# Altium schematic symbol library CircuitStudioSchematic.Lib.SchLib: 311 symbols (part 2 of 2)
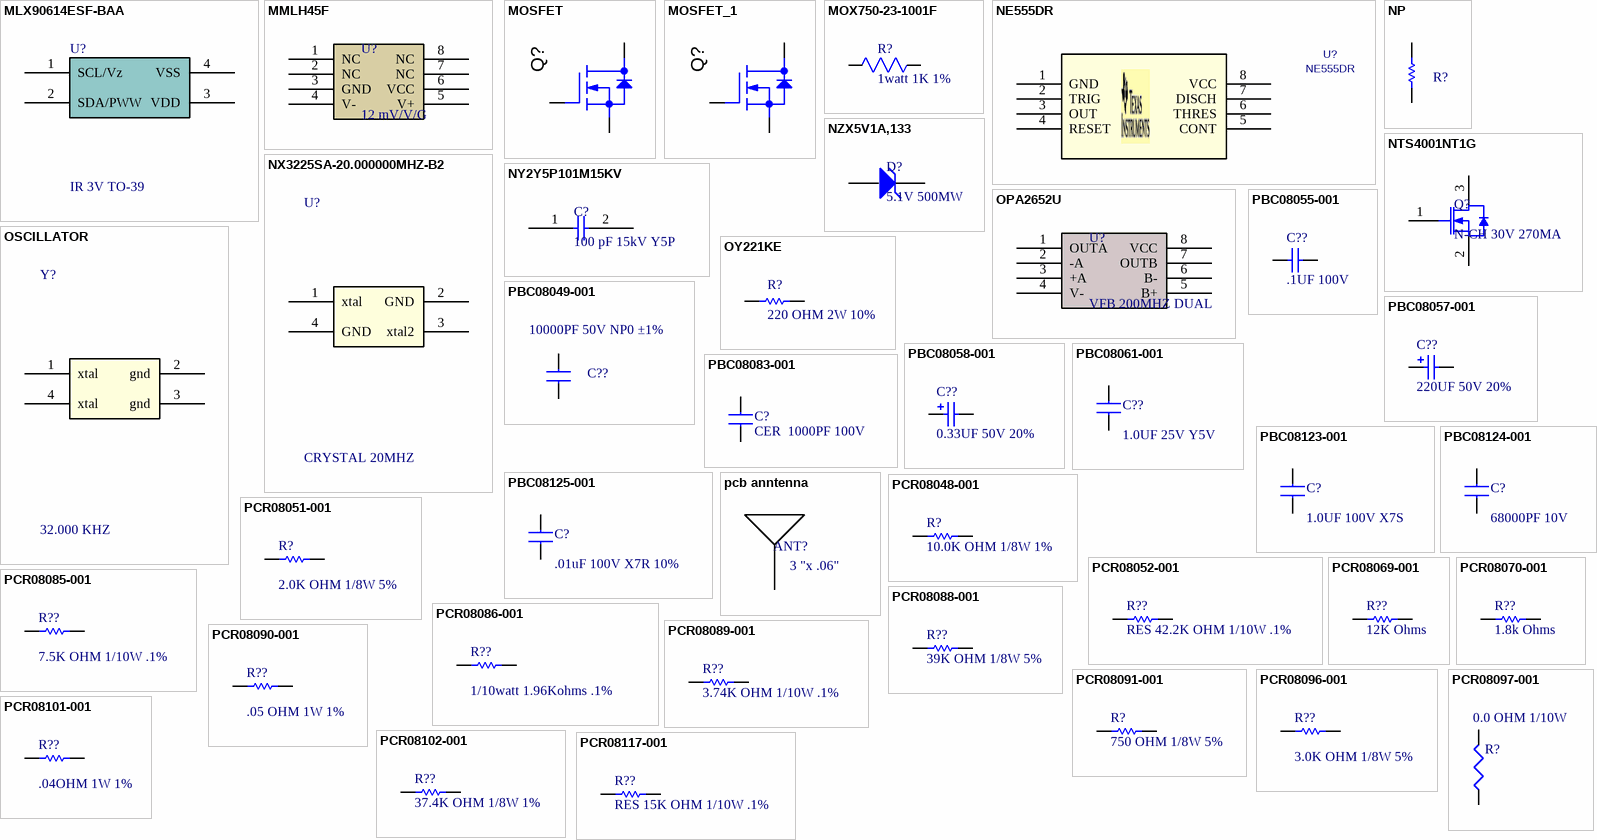
[diagram p10: symbols MLX90614ESF-BAA to PCR08117-001]

## PCR08102-001
designator R??  value 37.4K OHM 1/8W 1%  (hidden comment: PCR08102-001)
RES 37.4K OHM 1/8W 1% 0805 SMD; Part Number: ERJ-6ENF3742V; Manufacturer: Panasonic - ECG; Siemens Part Number: PCR08102-001
simulation model RESISTOR (Resistor)
signal-integrity model Res
footprint R0805
footprint Model Name (Footprint not found)
footprint R0805
pins: 1, 2

## PCR08117-001
designator R??, comment value RES 15K OHM 1/10W .1%  (hidden comment: 15K OHM 1/10W .1%)
RES 15K OHM 1/10W .1% 0603 SMD; Part Number: ERA-3AEB153V; Manufacturer: Panasonic - ECG; Siemens Part Number: PCR08117-P001
simulation model RESISTOR (Resistor)
signal-integrity model Res
footprint R0603 (Chip Resistor, Body 1.6x0.8mm, IPC High Density)
pins: 1, 2

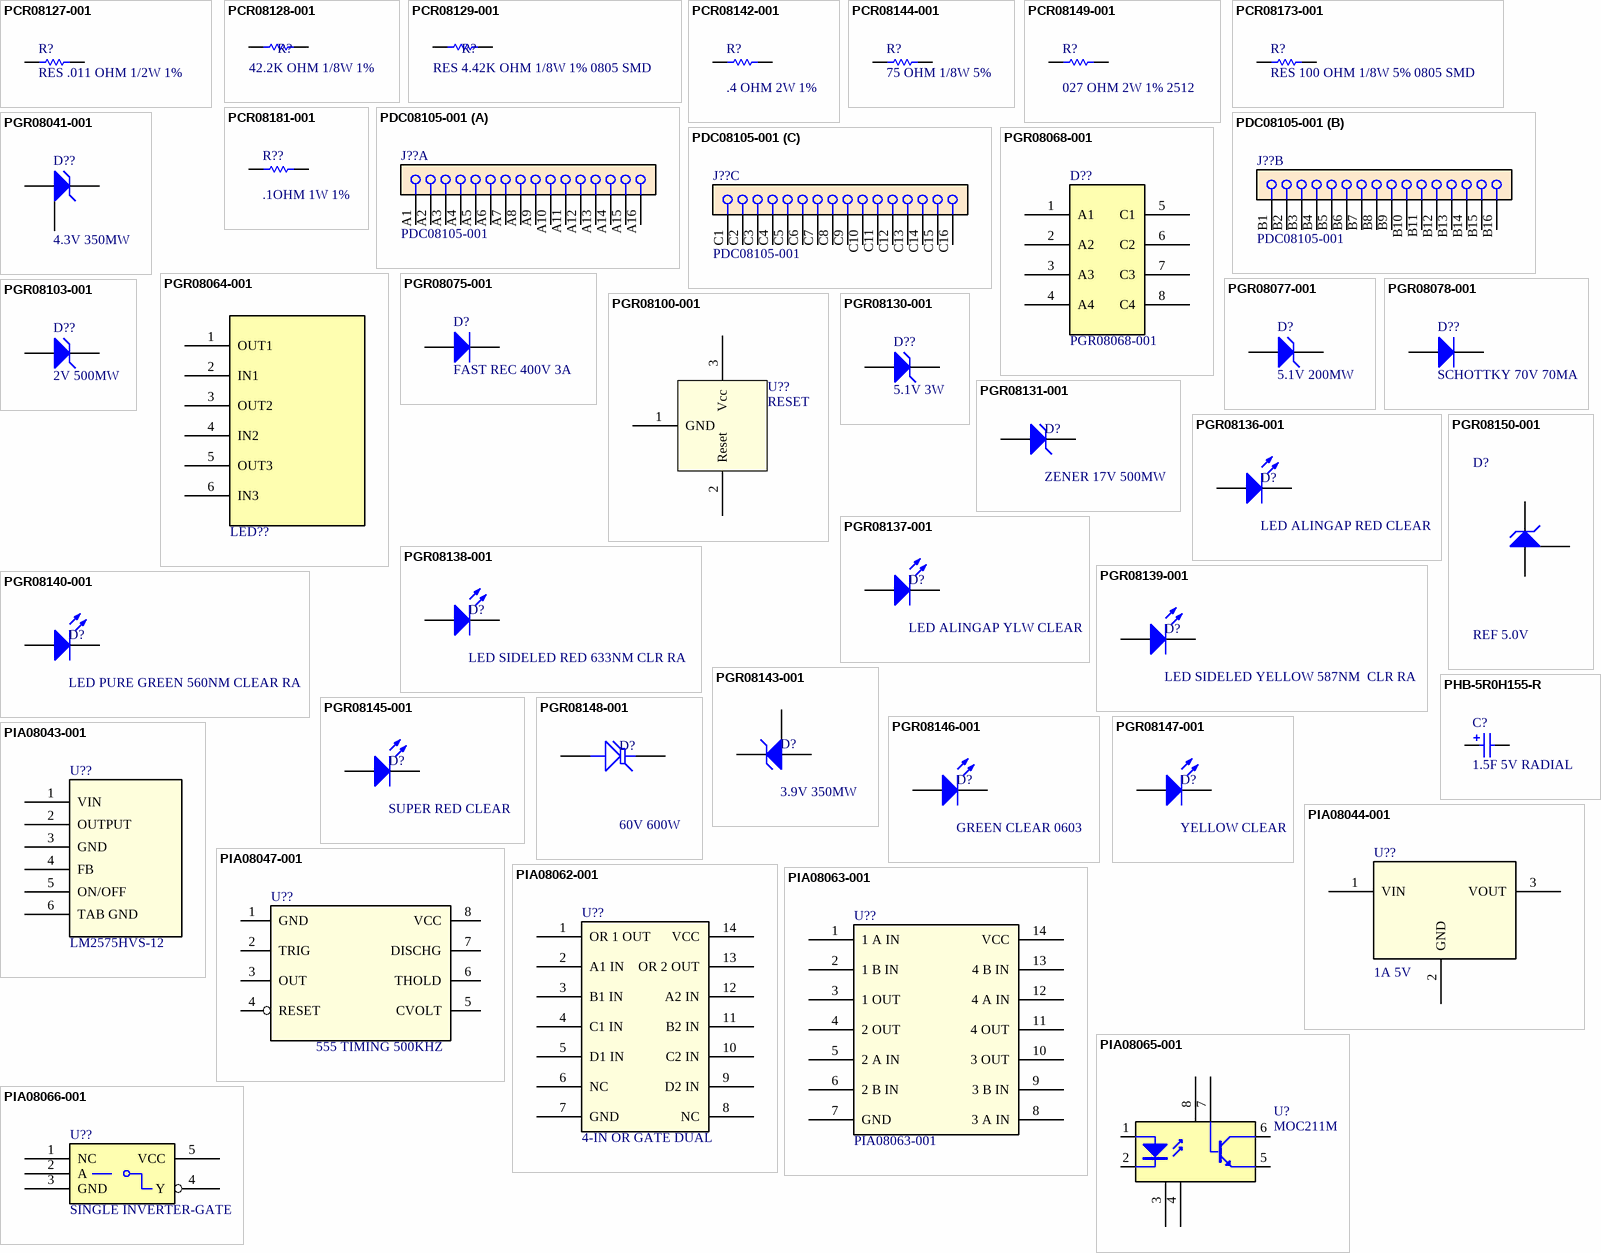
[diagram p6: symbols PCR08127-001 to PIA08066-001]

## PCR08127-001
designator R?, comment value RES .011 OHM 1/2W 1%  (hidden comment: .011 OHM 1/2W 1%)
RES 011 OHM 1/2W 1%; Part Number: ERJ-8BWFR011V; Manufacturer: Panasonic - ECG; Siemens Part Number: PCR08127-P001
simulation model RESISTOR (Resistor)
signal-integrity model Res
footprint R1206
pins: 1, 2

## PCR08128-001
designator R?, comment 42.2K OHM 1/8W 1%
RES 42.2K OHM 1/8W 1% 0805 SMD; Part Number: ERJ-6ENF4222V; Manufacturer: Panasonic - ECG; Siemens Part Number: PCR08128-P001; Value: 42.2K OHM 1/8W 1%
simulation model RESISTOR (Resistor)
signal-integrity model Res
footprint Model Name (Footprint not found)
footprint R0805
pins: 1, 2

## PCR08129-001
designator R?, comment value RES 4.42K OHM 1/8W 1% 0805 SMD  (hidden comment: 4.42K OHM 1/8W 1%)
RES 4.42K OHM 1/8W 1% 0805 SMD; Part Number: ERJ-6ENF4421V; Manufacturer: Panasonic - ECG; Siemens Part Number: PCR08129-P001
simulation model RESISTOR (Resistor)
signal-integrity model Res
footprint Model Name (Footprint not found)
footprint R0805
pins: 1, 2

## PCR08142-001
designator R?, comment value .4 OHM 2W 1%  (hidden comment: .4OHM 2W 1)
RES .4OHM 2W 1% 2512 SMD; Part Number: CSRN2512FKR400; Manufacturer: Stackpole Electronics Inc; Siemens Part Number: PCR08142-001
simulation model RESISTOR (Resistor)
signal-integrity model Res
footprint R2512 Current Sense
pins: 1, 2

## PCR08144-001
designator R?, comment 75 OHM 1/8W 5%
RES 75 OHM 1/8W 5% 0805 SMD; Part Number: ERJ-6GEYJ750V; Manufacturer: Panasonic - ECG; Siemens Part Number: PCR08144-001; Value: 75 OHM 1/8W 5%
simulation model RESISTOR (Resistor)
signal-integrity model Res
footprint R0805
pins: 1, 2

## PCR08149-001
designator R?, comment value 027 OHM 2W 1% 2512  (hidden comment: .027 OHM 2W 1% 2512)
RES .027 OHM 2W 1% 2512 SMD; Part Number: WSL2512R0270FEA18; Manufacturer: Vishay/Dale; Siemens Part Number: PCR08149-001
simulation model RESISTOR (Resistor)
signal-integrity model Res
footprint R2512 Current Sense
pins: 1, 2

## PCR08173-001
designator R?, comment value RES 100 OHM 1/8W 5% 0805 SMD  (hidden comment: 100 OHM 1/8W 5%)
RES 100 OHM 1/8W 5% 0805 SMD; Part Number: ERJ-6GEYJ101V; Manufacturer: Panasonic - ECG; Siemens Part Number: PCR08173-001
simulation model RESISTOR (Resistor)
signal-integrity model Res
footprint R0805
pins: 1, 2

## PCR08181-001
designator R??  value .1OHM 1W 1%  (hidden comment: PCR08181-001)
RESISTOR .100 OHM 1W 1% 2512; Part Number: ERJ-L1WKF10CU; Manufacturer: Panasonic - ECG; Siemens Part Number: PCR08181-001
footprint R2512 Current Sense
pins: 1, 2

## PDC08105-001
designator J??
AVX_48_PIN_RT_200_CONNECTOR, Pitch 5.08 mm; Part Number: 108447048001025; Manufacturer: AVX Corporation; HelpURL: G:\Altium\Library\DATASHEETS\8447.pdf; Siemens Part Number: PDC08105-001
footprint 0905248x851 (Connector; DIN 41612, Type E, Thru-Hole; Rows a+c+e, 48 Position; Vertical)
part A pins: A1, A2, A3, A4, A5, A6, A7, A8, A9, A10, A11, A12, A13, A14, A15, A16
part B pins: B1, B2, B3, B4, B5, B6, B7, B8, B9, B10, B11, B12, B13, B14, B15, B16
part C pins: C1, C2, C3, C4, C5, C6, C7, C8, C9, C10, C11, C12, C13, C14, C15, C16

## PGR08041-001
designator D??, comment 4.3V 350MW
ZENER 4.3V 350MW; Part Number: MMBZ5229B; Manufacturer: Fairchild Semiconductor; Siemens Part Number: PGR08041-001; HelpURL: G:\Altium\Library\DATASHEETS\MMBZ5226B.pdf
simulation model ZENER (Diode)
footprint Model Name (Footprint not found)
footprint SOT-23
pins: 1 "Anode", 2 "No Connect", 3 "Cathode"

## PGR08064-001
designator LED??, comment 5510003819F  (value not drawn)
LED LIGHT TRIPPLE RA; Manufacturer: Dialight; Siemens Part Number: PGR08064-001; Part Number: 5510003819F; HelpURL: G:\Altium\Library\DATASHEETS\C17865.pdf
footprint LED QUAD RA1
footprint LED Traffic (traffic light led green red yellow TE Connectivity)
pins: 1 OUT1, 2 IN1, 3 OUT2, 4 IN2, 5 OUT3, 6 IN3

## PGR08068-001
designator D??
LED 2MM QUAD RED; Part Number: 555-4001F; Manufacturer: Dialight; HelpURL: G:\Altium\Library\DATASHEETS\555-4xxx.pdf; Siemens Part Number: PGR08068-001
footprint Dialight Led 8 .1 X .1
pins: 1 A1, 2 A2, 3 A3, 4 A4, 5 C1, 6 C2, 7 C3, 8 C4

## PGR08075-001
designator D?, comment FAST REC 400V 3A
Part Number: RS3GB-13-F; Manufacturer: Diodes Inc; Siemens Part Number: PGR08075-001; HelpURL: G:\Altium\Library\DATASHEETS\ds15005.pdf
footprint DO214AA
pins: 1 A, 2 K

## PGR08077-001
designator D?, comment 5.1V 200MW
DIODE ZENER 5.1V 200MW SOD-323F; Part Number: MM3Z5V1C; Manufacturer: Fairchild Semiconductor; Siemens Part Number: PGR08077-001; HelpURL: G:\Altium\Library\DATASHEETS\MM3Z10VC.pdf
simulation model ZENER (Diode)
signal-integrity model D Zener
footprint SOD323F
pins: 1 "Anode", 2 "Cathode"

## PGR08078-001
designator D??, comment SCHOTTKY 70V 70MA
DIODE SCHOTTKY 70V 70MA SOD-923; Part Number: BAS70SL; Manufacturer: irchild Semiconductor; Siemens Part Number: PGR08078-001; HelpURL: G:\Altium\Library\DATASHEETS\BA_BAS70SL.pdf
footprint SOD 923F
pins: 1 A, 2 K

## PGR08100-001
designator U??, comment RESET
IC MPU RESET CIRC 4.63V SOT23-3; Part Number: APX803-46SAG-7; Manufacturer: Diodes Inc; Siemens Part Number: PGR08100-001; HelpURL: G:\Altium\Library\DATASHEETS\APX803.pdf
footprint SOT-23
pins: 1 GND, 2 Reset, 3 Vcc

## PGR08103-001
designator D??, comment 2V 500MW
DIODE ZENER 2V 500MW SOD-123; Part Number: BZT52C2V0-7-F; Manufacturer: Diodes Inc; Siemens Part Number: PGR08103-001; HelpURL: G:\Altium\Library\DATASHEETS\ds18004.pdf
simulation model ZENER (Diode)
signal-integrity model D Zener
footprint Model Name (Footprint not found)
footprint SOD-123
pins: 1 "Anode", 2 "Cathode"

## PGR08130-001
designator D??, comment 5.1V 3W
DIODE ZENER 5.1V 3W SMB; Part Number: 1SMB5918BT3G; Manufacturer: ON Semiconductor; Siemens Part Number: PGR08130-001; HelpURL: G:\Altium\Library\DATASHEETS\1SMB5913BT3-D.pdf
simulation model ZENER (Diode)
signal-integrity model D Zener
footprint Model Name (Footprint not found)
footprint DO214AA
pins: 1 "Anode", 2 "Cathode"

## PGR08131-001
designator D?, comment ZENER 17V 500MW
DIODE ZENER 17V 500MW SOD-123; Part Number: MMSZ5247BT1G; Manufacturer: ON Semiconductor; Siemens Part Number: PGR08131-001; HelpURL: G:\Altium\Library\DATASHEETS\MMSZ4678T1-D.pdf
simulation model ZENER (Diode)
signal-integrity model D Zener
footprint SOD-123
pins: 1 "Anode", 2 "Cathode"

## PGR08136-001
designator D?, comment LED ALINGAP RED CLEAR
LED ALINGAP RED CLEAR 0805 SMD; Part Number: 598-8110-107F; Manufacturer: Dialight; Siemens Part Number: PGR08136-P001; HelpURL: G:\Altium\Library\DATASHEETS\MDEI5980805.pdf
simulation model ZENER (Diode)
signal-integrity model D Zener
footprint D0805 (LED)
pins: 1 A, 2 K

## PGR08137-001
designator D?, comment LED ALINGAP YLW CLEAR
LED ALINGAP YLW CLEAR 0805 SMD; Part Number: 598-8150-107F; Manufacturer: Dialight; Siemens Part Number: PGR08137-P001; HelpURL: G:\Altium\Library\DATASHEETS\MDEI5980805.pdf
simulation model ZENER (Diode)
signal-integrity model D Zener
footprint D0805 (LED)
pins: 1 A, 2 K

## PGR08138-001
designator D?, comment LED SIDELED RED 633NM CLR RA
LED SIDELED RED 633NM CLR RA SMD; Part Number: LS A67F-U1AA-1-Z; Manufacturer: OSRAM Opto Semiconductors Inc; Siemens Part Number: PGR08138-P001; HelpURL: G:\Altium\Library\DATASHEETS\LP_A675_Pb_free.pdf
simulation model ZENER (Diode)
signal-integrity model D Zener
footprint LED OSRAM RED (LED Right angle OSRAM LED)
pins: 1 A, 2 K

## PGR08139-001
designator D?, comment LED SIDELED YELLOW 587NM  CLR RA
LED SIDELED YELLOW 587NM  CLR RA SMD; Part Number: LY A67F-U2AB-36-Z; Manufacturer: OSRAM Opto Semiconductors Inc; Siemens Part Number: PGR08139-P001; HelpURL: G:\Altium\Library\DATASHEETS\LP_A675_Pb_free.pdf
simulation model ZENER (Diode)
signal-integrity model D Zener
footprint LED OSRAM  YELLOW (LED Right angle OSRAM LED)
pins: 1 A, 2 K

## PGR08140-001
designator D?, comment LED PURE GREEN 560NM CLEAR RA
LED PURE GREEN 560NM CLEAR SMDRA; Part Number: LP A675-N1P2-25-Z; Manufacturer: OSRAM Opto Semiconductors Inc; Siemens Part Number: PGR08140-P001; HelpURL: G:\Altium\Library\DATASHEETS\LP_A675_Pb_free.pdf
simulation model ZENER (Diode)
signal-integrity model D Zener
footprint LED OSRAM GREEN (LED Right angle OSRAM LED)
pins: 1 A, 2 K

## PGR08143-001
designator D?, comment 3.9V 350MW
DIODE ZENER 3.9V 350MW SOT23-3; Part Number: MMBZ5228B-7-F; Manufacturer: Diodes Inc; Siemens Part Number: PGR08143-001; HelpURL: G:\Altium\Library\DATASHEETS\ds18011.pdf
simulation model ZENER (Diode)
signal-integrity model D Zener
footprint SOT-23
pins: 1 "Anode", 2 "No Connect", 3 "Cathode"

## PGR08145-001
designator D?, comment SUPER RED CLEAR
LED SUPER RED CLEAR 0603 SMD; Part Number: LTST-C190KRKT; Manufacturer: Lite-On Inc
simulation model ZENER (Diode)
footprint D0603 red (red)
pins: 1 A, 2 K

## PGR08146-001
designator D?, comment GREEN CLEAR 0603
LED GREEN CLEAR 0603 SMD; Part Number: LTST-C190KGKT; Manufacturer: Lite-On Inc; Siemens Part Number: PGR08146-P001; HelpURL: G:\Altium\Library\DATASHEETS\P_100_LTST-C190KRKT[1].pdf
simulation model ZENER (Diode)
signal-integrity model D Zener
footprint D0603 GREEN (red)
pins: 1 A, 2 K

## PGR08147-001
designator D?, comment YELLOW CLEAR
LED YELLOW CLEAR 0603 SMD; Part Number: LTST-C190KSKT; Manufacturer: Lite-On Inc; Siemens Part Number: PGR08147-P001; HelpURL: G:\Altium\Library\DATASHEETS\P_100_LTST-C190KRKT[1].pdf
simulation model ZENER (Diode)
signal-integrity model D Zener
footprint D0603 yellow (red)
pins: 1 A, 2 K

## PGR08148-001
designator D?, comment 60V 600W
DIODE TVS 60V 600W UNI 5% SMD; Part Number: SMBJ60A; Manufacturer: Bourns Inc.; Siemens Part Number: PGR08148-001; HelpURL: G:\Altium\Library\DATASHEETS\SMBJ.pdf
footprint DO214AA
pins: 1 A, 2 K

## PGR08150-001
designator D?, comment REF 5.0V
IC VOLTAGE REF 5.0V 1.0% SOT23-3; Part Number: LM4040D50FTA; Manufacturer: Diodes/Zetex; Siemens Part Number: PGR08150-001; HelpURL: G:\Altium\Library\DATASHEETS\LM4040.pdf
footprint Model Name (Footprint not found)
footprint TO-263-5 (IC REG SIMPLE SWITCHER TO-263-5)
pins: 1 "No Connect", 2 "Anode", 3 "Cathode"

## PHB-5R0H155-R
designator C?, comment 1.5F 5V RADIAL
CAP SUPER 1.5F 5V RADIAL; Part Number: PHB-5R0H155-R; Manufacturer: Cooper Bussmann; HelpURL: C:\altium files\Datasheets\PHB Series Datasheet.pdf; Value: 1.5F 5V RADIAL
footprint CAP SUPER Horizontal
pins: 1, 2
1 alternate drawing of the same symbol

## PIA08043-001
designator U??, comment LM2575HVS-12
IC REG SIMPLE SWITCHER TO-263-5; Part Number: LM2575HVS-12/NOPB; Manufacturer: National Semiconductor; Siemens Part Number: PIA08043-001; HelpURL: G:\Altium\Library\DATASHEETS\LM1575.pdf
footprint TO-263-5 (IC REG SIMPLE SWITCHER TO-263-5)
pins: 1 VIN, 2 OUTPUT, 3 GND, 4 FB, 5 ON/OFF, 6 TAB GND

## PIA08044-001
designator U??, comment 1A 5V
IC REG VOLT POS 1A 5V DPAK; Part Number: MC7805BDTRKG; Manufacturer: ON Semiconductor; Siemens Part Number: PIA08044-001; HelpURL: G:\Altium\Library\DATASHEETS\MC7800-D.pdf
footprint TO-252-2
pins: 1 VIN, 2 GND, 3 VOUT

## PIA08047-001
designator U??, comment 555 TIMING 500KHZ
OSC MONO TIMING 500KHZ; Manufacturer: STMicroelectronics; Part Number: SA555DT; Siemens Part Number: PIA08047-001; HelpURL: G:\Altium\Library\DATASHEETS\CD00000893.pdf
simulation model 555 (SUBCKT)
footprint SO8
pins: 1 GND, 2 TRIG, 3 OUT, 4 RESET, 5 CVOLT, 6 THOLD, 7 DISCHG, 8 VCC

## PIA08062-001
designator U??, comment 4-IN OR GATE DUAL
IC 4-IN OR GATE DUAL 14-SOP; Part Number: CD4072BNSR; Manufacturer: Texas Instruments; Siemens Part Number: PIA08062-001; HelpURL: G:\Altium\Library\DATASHEETS\cd4071b.pdf
footprint SO 14 (Texas Instruments)
pins: 1 OR 1 OUT, 2 A1 IN, 3 B1 IN, 4 C1 IN, 5 D1 IN, 6 NC, 7 GND, 8 NC, 9 D2 IN, 10 C2 IN, 11 B2 IN, 12 A2 IN, 13 OR 2 OUT, 14 VCC

## PIA08063-001
designator U??
IC EX-OR GATE QUAD 14-SOIC; Part Number: CD4070BM; Manufacturer: Texas Instruments; HelpURL: G:\Altium\Library\DATASHEETS\cd4070b.pdf; Siemens Part Number: PIA08063-001
footprint DIP-4 (DIP; 4 Leads; Row Spacing 7.62 mm; Pitch 2.54 mm)
footprint SOIC 14
pins: 1 1 A IN, 2 1 B IN, 3 1 OUT, 4 2 OUT, 5 2 A IN, 6 2 B IN, 7 GND, 8 3 A IN, 9 3 B IN, 10 3 OUT, 11 4 OUT, 12 4 A IN, 13 4 B IN, 14 VCC

## PIA08065-001
designator U?, comment MOC211M
OPTOCOUPLER TRANS-OUT; Manufacturer: Fairchild Optoelectronics Group; Siemens Part Number: PIA08065-001; HelpURL: G:\Altium\Library\DATASHEETS\MOC212-M.pdf; Part Number: MOC211M
footprint SOIC127P600-8N (Optocouplers Transistor Output MOC211)
pins: 1 A "Anode", 2 K "Cathode", 3 NC, 4 NC, 5 E "Emitter", 6 C "Collector", 7 B, 8 NC

## PIA08066-001
designator U??, comment SINGLE INVERTER-GATE
Manufacturer: Texas Instruments; Part Number: SN74LVC1G04DBVR; Siemens Part Number: PIA08066-001; HelpURL: G:\Altium\Library\DATASHEETS\sn74lvc1g04.pdf
footprint SOT 23-5
pins: 1 NC, 2 A, 3 GND (power), 4 Y, 5 VCC (power)

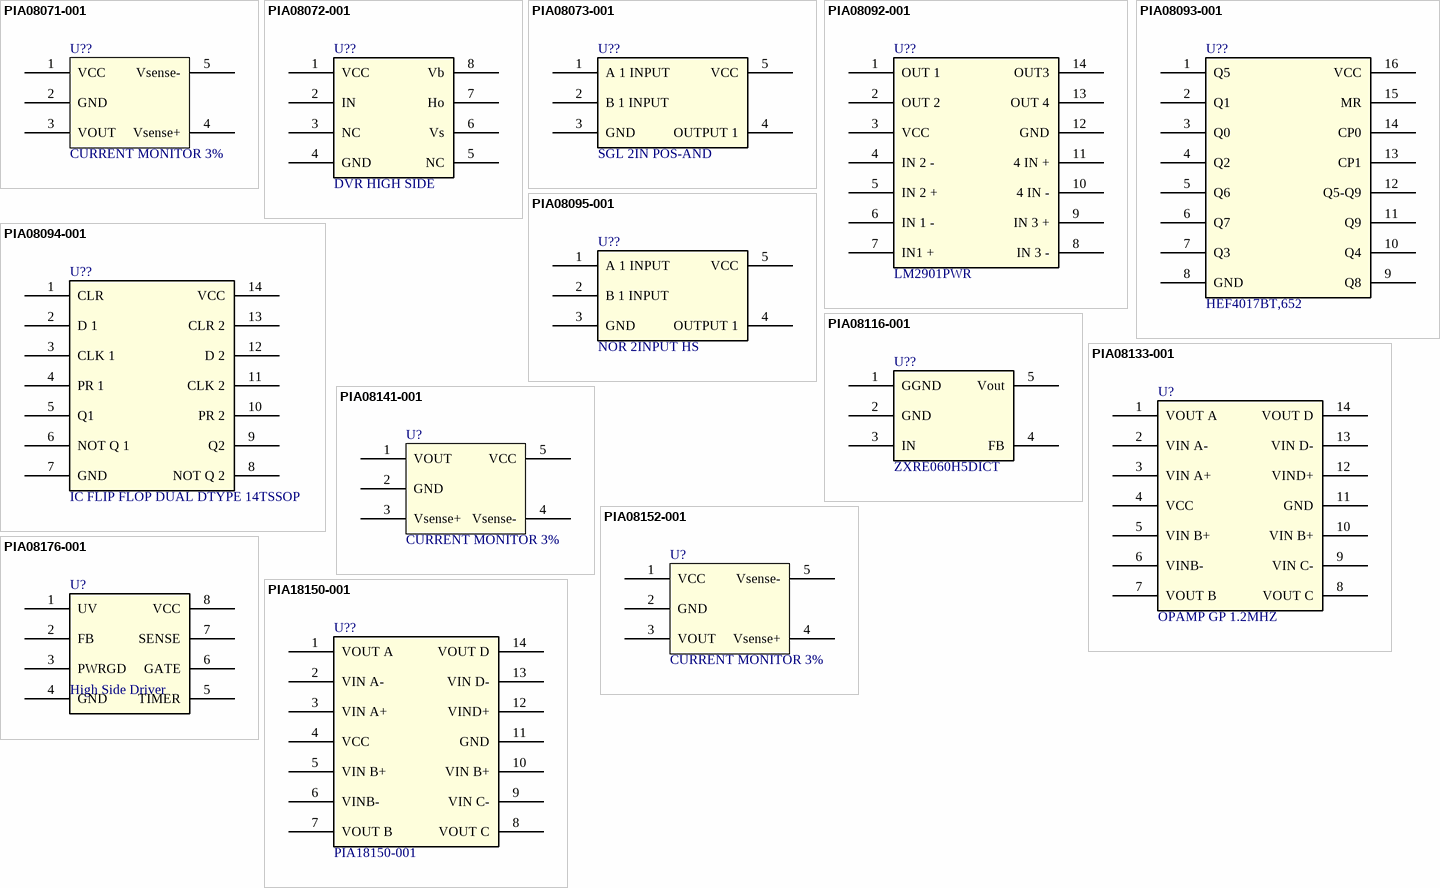
[diagram p7: symbols PIA08071-001 to PIA18150-001]

## PIA08071-001
designator U??, comment CURRENT MONITOR 3%
IC CURRENT MONITOR 3%; Part Number: ZXCT1050E5TA; Manufacturer: Diodes/Zetex; Siemens Part Number: PIA08071-001; HelpURL: G:\Altium\Library\DATASHEETS\ZXCT1050.pdf
footprint SOT 23-5
pins: 1 VCC, 2 GND, 3 VOUT, 4 Vsense+, 5 Vsense-

## PIA08072-001
designator U??, comment DVR HIGH SIDE
IC GATE DVR HIGH SIDE 8-SOP; Manufacturer: Fairchild Semiconductor; Part Number: FAN73711MX; Siemens Part Number: PIA08072-001; HelpURL: G:\Altium\Library\DATASHEETS\FA_FAN73711.pdf
footprint SOIC8 (IC SW DISTRIBUTION 2CHAN 8SOIC)
footprint SOIC8 (IC SW DISTRIBUTION 2CHAN 8SOIC)
footprint SOIC-8 (.150 chasis)
pins: 1 VCC, 2 IN, 3 NC, 4 GND, 5 NC, 6 Vs, 7 Ho, 8 Vb

## PIA08073-001
designator U??, comment SGL 2IN POS-AND
IC GATE NOR 2INPUT HS SC70-5; Part Number: SN74AHC1G08DCKR; Manufacturer: Texas Instruments; Siemens Part Number: PIA08073-001; HelpURL: G:\Altium\Library\DATASHEETS\sn74ahc1g08.pdf
footprint SC-70
pins: 1 A 1 INPUT, 2 B 1 INPUT, 3 GND, 4 OUTPUT 1, 5 VCC

## PIA08092-001
designator U??, comment LM2901PWR
IC QUAD DIFF COMPARATOR 14-TSSOP; Manufacturer: Texas Instruments; Siemens Part Number: PIA08092-001; HelpURL: G:\Altium\Library\DATASHEETS\lm239.pdf; Part Number: LM2901PWR
footprint 14TSSOP
pins: 1 OUT 1, 2 OUT 2, 3 VCC, 4 IN 2 -, 5 IN 2 +, 6 IN 1 -, 7 IN1 +, 8 IN 3 -, 9 IN 3 +, 10 4 IN -, 11 4 IN +, 12 GND, 13 OUT 4, 14 OUT3

## PIA08093-001
designator U??, comment HEF4017BT,652
IC COUNTER 5STAGE JOHNSON 16SOIC; Manufacturer: NXP Semiconductors; Siemens Part Number: PIA08093-001; Part Number: HEF4017BT,652; HelpURL: G:\Altium\Library\DATASHEETS\HEF4017B.pdf
footprint SOIC16
pins: 1 Q5, 2 Q1, 3 Q0, 4 Q2, 5 Q6, 6 Q7, 7 Q3, 8 GND, 9 Q8, 10 Q4, 11 Q9, 12 Q5-Q9, 13 CP1, 14 CP0, 15 MR, 16 VCC

## PIA08094-001
designator U??, comment IC FLIP FLOP DUAL DTYPE 14TSSOP
IC FLIP FLOP DUAL DTYPE; Part Number: 74VHC74MTCX; Manufacturer: Fairchild Semiconductor; Siemens Part Number: PIA08094-001; HelpURL: G:\Altium\Library\DATASHEETS\74VHC74.pdf
footprint 14TSSOP
pins: 1 CLR, 2 D 1, 3 CLK 1, 4 PR 1, 5 Q1, 6 NOT Q 1, 7 GND, 8 NOT Q 2, 9 Q2, 10 PR 2, 11 CLK 2, 12 D 2, 13 CLR 2, 14 VCC

## PIA08095-001
designator U??, comment NOR 2INPUT HS
IC GATE NOR 2INPUT HS SC70-5; Part Number: SN74AHC1G08DCKR; Manufacturer: Texas Instruments; Siemens Part Number: PIA08095-001; HelpURL: G:\Altium\Library\DATASHEETS\sn74ahc1g08.pdf
footprint SC-70
pins: 1 A 1 INPUT, 2 B 1 INPUT, 3 GND, 4 OUTPUT 1, 5 VCC

## PIA08116-001
designator U??, comment ZXRE060H5DICT
IC SHUNT REG 0.6V ADJ TSOT23-5; Part Number: ZXRE060ET5TA; Manufacturer: Diodes Inc; Siemens Part Number: PIA08116-001; HelpURL: G:\Altium\Library\DATASHEETS\ZXRE060.pdf
footprint SOT 23-5
pins: 1 GGND, 2 GND, 3 IN, 4 FB, 5 Vout

## PIA08133-001
designator U?, comment OPAMP GP 1.2MHZ
IC OPAMP GP 1.2MHZ QUAD 14SOIC; Manufacturer: Texas Instruments; Part Number: LM2902DR; Siemens Part Number: PIA08133-001; HelpURL: G:\Altium\Library\DATASHEETS\lm224.pdf
footprint SOIC 14
pins: 1 VOUT A, 2 VIN A-, 3 VIN A+, 4 VCC, 5 VIN B+, 6 VINB-, 7 VOUT B, 8 VOUT C, 9 VIN C-, 10 VIN B+, 11 GND, 12 VIND+, 13 VIN D-, 14 VOUT D

## PIA08141-001
designator U?, comment CURRENT MONITOR 3%
IC CURRENT MONITOR 3% SOT23-5; Part Number: INA193AIDBVT; Manufacturer: Texas Instruments; Siemens Part Number: PIA08141-001; HelpURL: G:\Altium\Library\DATASHEETS\ina193.pdf
footprint SOT 23-5
pins: 1 VOUT, 2 GND, 3 Vsense+, 4 Vsense-, 5 VCC

## PIA08152-001
designator U?, comment CURRENT MONITOR 3%
IC CURRENT MONITOR 3% SOT23-5; Part Number: ZXCT1080E5TA; Manufacturer: Diodes/Zetex; Siemens Part Number: PIA08152-001; HelpURL: G:\Altium\Library\DATASHEETS\ZXCT1080.pdf
footprint SOT 23-5
pins: 1 VCC, 2 GND, 3 VOUT, 4 Vsense+, 5 Vsense-

## PIA08176-001
designator U?, comment High Side Driver
IC CTLR HOTSWAP HV LATCH 8SOIC; Part Number: LT4256-1IS8#PBF; Manufacturer: Linear Technology; Siemens Part Number: PIA08176-001; HelpURL: G:\Altium\Library\DATASHEETS\425612fa.pm6.pdf
footprint SOIC-8 (.150 chasis)
pins: 1 UV, 2 FB, 3 PWRGD, 4 GND, 5 TIMER, 6 GATE, 7 SENSE, 8 VCC

## PIA18150-001
designator U??
OPAMP 1.0MHZ 1.8V; Manufacturer: Microchip Technology; Part Number: MCP6L04T-E/SL; HelpURL: G:\Altium\Library\DATASHEETS\22140a.pdf; Siemens Part Number: PIA18150-001
footprint 14TSSOP
pins: 1 VOUT A, 2 VIN A-, 3 VIN A+, 4 VCC, 5 VIN B+, 6 VINB-, 7 VOUT B, 8 VOUT C, 9 VIN C-, 10 VIN B+, 11 GND, 12 VIND+, 13 VIN D-, 14 VOUT D

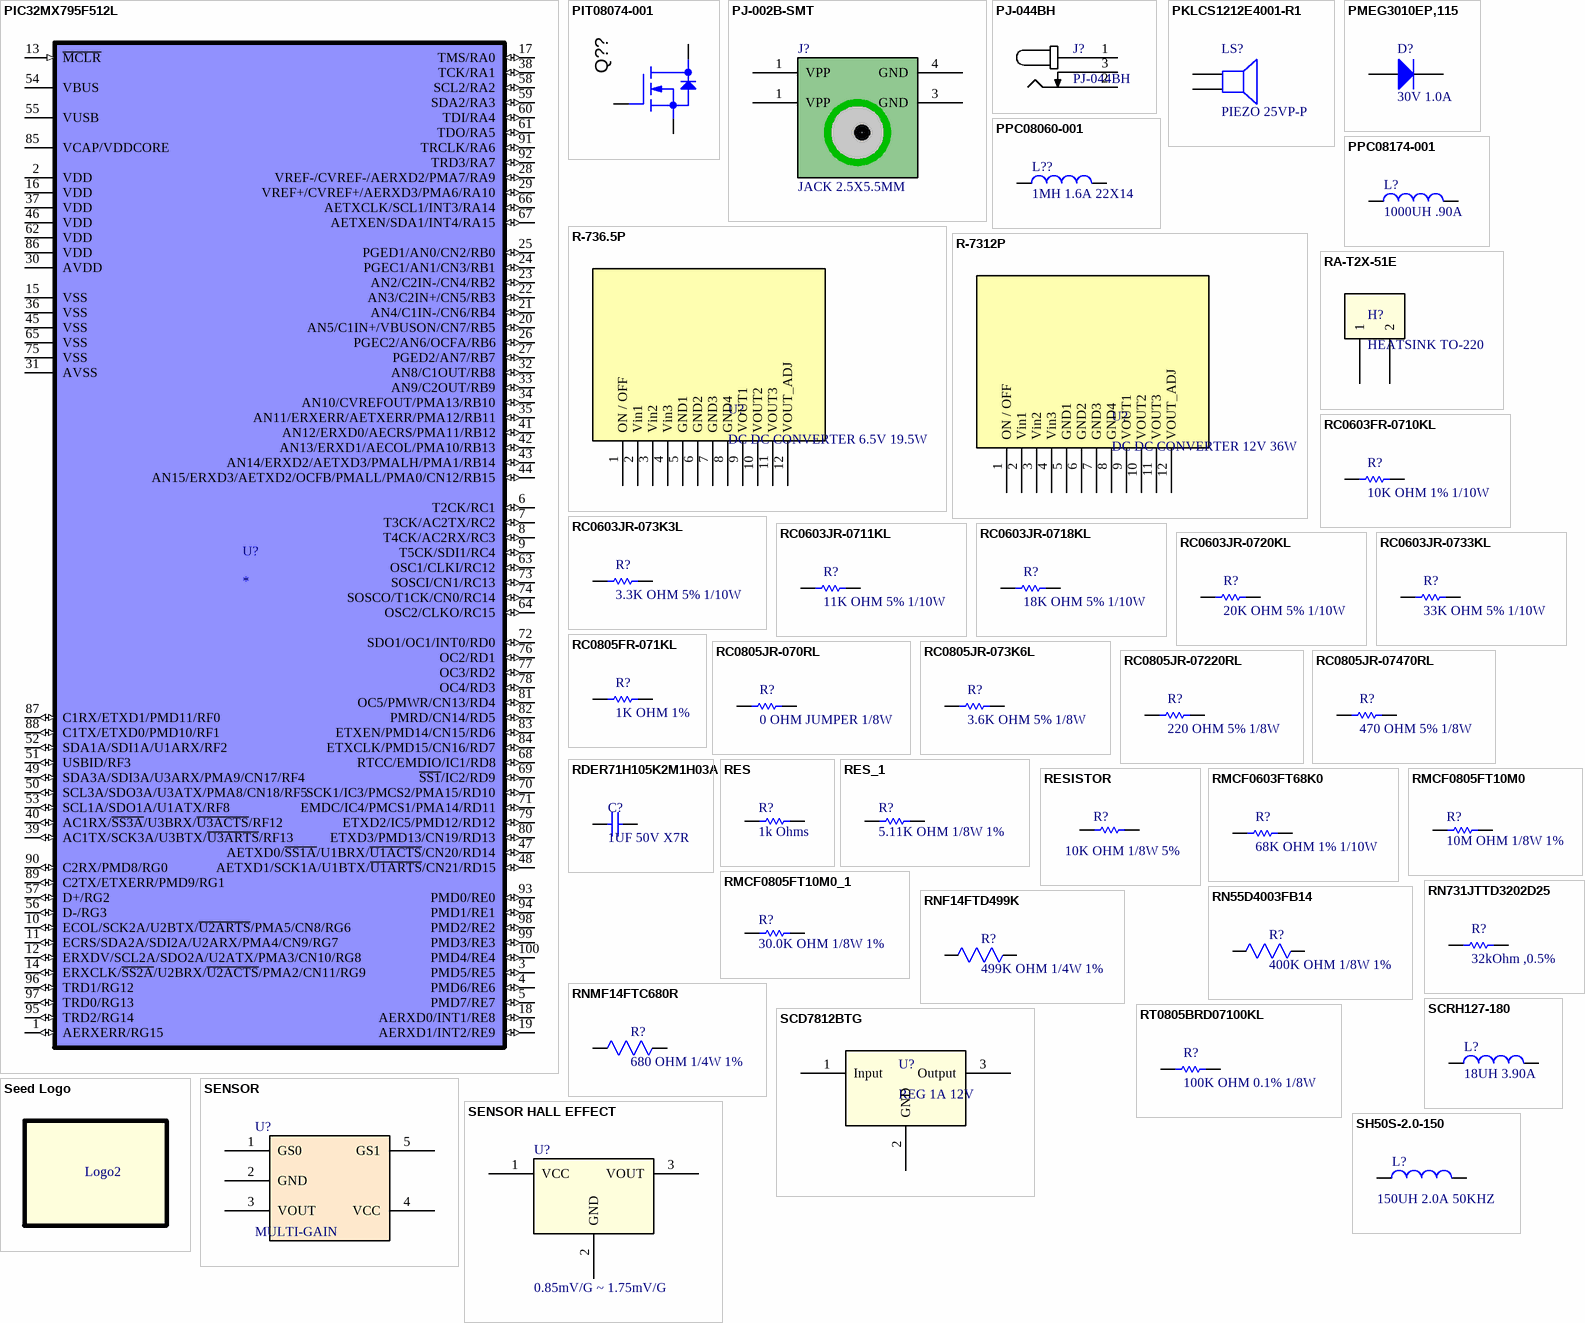
[diagram p8: symbols PIC32MX795F512L to SH50S-2.0-150]

## PIC32MX795F512L
designator U?
IC MCU 32BIT 512KB FLASH 100TQFP; Manufacturer: Microchip Technology; Part Number: PIC32MX795F512L-80V/PF; digiky cost: 13.18000; HelpURL: C:\altium files\Datasheets\61156G.pdf; digikey #: PIC32MX795F512L-80V/PF-ND
footprint TPFQ-100 (12x12x1 mm 100pin microchip)
pins: 1 AERXERR/RG15 (io), 2 VDD (power), 3 PMD5/RE5 (io), 4 PMD6/RE6 (io), 5 PMD7/RE7 (io), 6 T2CK/RC1 (io), 7 T3CK/AC2TX/RC2 (io), 8 T4CK/AC2RX/RC3 (io), 9 T5CK/SDI1/RC4 (io), 10 ECOL/SCK2A/U2BTX/~{U2ARTS}/PMA5/CN8/RG6 (io), 11 ECRS/SDA2A/SDI2A/U2ARX/PMA4/CN9/RG7 (io), 12 ERXDV/SCL2A/SDO2A/U2ATX/PMA3/CN10/RG8 (io), 13 ~{MCLR} (in), 14 ERXCLK/~{SS2A}/U2BRX/~{U2ACTS}/PMA2/CN11/RG9 (io), 15 VSS (power), 16 VDD (power), 17 TMS/RA0 (io), 18 AERXD0/INT1/RE8 (io), 19 AERXD1/INT2/RE9 (io), 20 AN5/C1IN+/VBUSON/CN7/RB5 (io), 21 AN4/C1IN-/CN6/RB4 (io), 22 AN3/C2IN+/CN5/RB3 (io), 23 AN2/C2IN-/CN4/RB2 (io), 24 PGEC1/AN1/CN3/RB1 (io), 25 PGED1/AN0/CN2/RB0 (io), 26 PGEC2/AN6/OCFA/RB6 (io), 27 PGED2/AN7/RB7 (io), 28 VREF-/CVREF-/AERXD2/PMA7/RA9 (io), 29 VREF+/CVREF+/AERXD3/PMA6/RA10 (io), 30 AVDD (power), 31 AVSS (power), 32 AN8/C1OUT/RB8 (io), 33 AN9/C2OUT/RB9 (io), 34 AN10/CVREFOUT/PMA13/RB10 (io), 35 AN11/ERXERR/AETXERR/PMA12/RB11 (io), 36 VSS (power), 37 VDD (power), 38 TCK/RA1 (io), 39 AC1TX/SCK3A/U3BTX/~{U3ARTS}/RF13 (io), 40 AC1RX/~{SS3A}/U3BRX/~{U3ACTS}/RF12 (io), 41 AN12/ERXD0/AECRS/PMA11/RB12 (io), 42 AN13/ERXD1/AECOL/PMA10/RB13 (io), 43 AN14/ERXD2/AETXD3/PMALH/PMA1/RB14 (io), 44 AN15/ERXD3/AETXD2/OCFB/PMALL/PMA0/CN12/RB15 (io), 45 VSS (power), 46 VDD (power), 47 AETXD0/~{SS1A}/U1BRX/~{U1ACTS}/CN20/RD14 (io), 48 AETXD1/SCK1A/U1BTX/~{U1ARTS}/CN21/RD15 (io), 49 SDA3A/SDI3A/U3ARX/PMA9/CN17/RF4 (io), 50 SCL3A/SDO3A/U3ATX/PMA8/CN18/RF5 (io), 51 USBID/RF3 (io), 52 SDA1A/SDI1A/U1ARX/RF2 (io), 53 SCL1A/SDO1A/U1ATX/RF8 (io), 54 VBUS, 55 VUSB (power), 56 D-/RG3 (io), 57 D+/RG2 (io), 58 SCL2/RA2 (io), 59 SDA2/RA3 (io), 60 TDI/RA4 (io), 61 TDO/RA5 (io), 62 VDD (power), 63 OSC1/CLKI/RC12 (io), 64 OSC2/CLKO/RC15 (io), 65 VSS (power), 66 AETXCLK/SCL1/INT3/RA14 (io), 67 AETXEN/SDA1/INT4/RA15 (io), 68 RTCC/EMDIO/IC1/RD8 (io), 69 ~{SS1}/IC2/RD9 (io), 70 SCK1/IC3/PMCS2/PMA15/RD10 (io), 71 EMDC/IC4/PMCS1/PMA14/RD11 (io), 72 SDO1/OC1/INT0/RD0 (io), 73 SOSCI/CN1/RC13 (io), 74 SOSCO/T1CK/CN0/RC14 (io), 75 VSS (power), 76 OC2/RD1 (io), 77 OC3/RD2 (io), 78 OC4/RD3 (io), 79 ETXD2/IC5/PMD12/RD12 (io), 80 ETXD3/PMD13/CN19/RD13 (io), 81 OC5/PMWR/CN13/RD4 (io), 82 PMRD/CN14/RD5 (io), 83 ETXEN/PMD14/CN15/RD6 (io), 84 ETXCLK/PMD15/CN16/RD7 (io), 85 VCAP/VDDCORE (power), 86 VDD (power), 87 C1RX/ETXD1/PMD11/RF0 (io), 88 C1TX/ETXD0/PMD10/RF1 (io), 89 C2TX/ETXERR/PMD9/RG1 (io), 90 C2RX/PMD8/RG0 (io), 91 TRCLK/RA6 (io), 92 TRD3/RA7 (io), 93 PMD0/RE0 (io), 94 PMD1/RE1 (io), 95 TRD2/RG14 (io), 96 TRD1/RG12 (io), 97 TRD0/RG13 (io), 98 PMD2/RE2 (io), 99 PMD3/RE3 (io), 100 PMD4/RE4 (io)

## PIT08074-001
designator Q??, comment IRF831  (value not drawn)
MOSFET N-CH 150V 29A D-PAK; Part Number: FDD2572; Manufacturer: Fairchild Semiconductor; Siemens Part Number: PIT08074-001; HelpURL: G:\Altium\Library\DATASHEETS\FDD2572.pdf
footprint TO-252-2 (JEDEC TO-252AA)
pins: 1 GATE, 2 DRAIN, 3 SOURCE

## PJ-002B-SMT
designator J?, comment JACK 2.5X5.5MM
CONN POWER JACK 2.5X5.5MM SMD; Part Number: PJ-002B-SMT; Manufacturer: CUI Inc; HelpURL: C:\altium files\Datasheets\PJ-002B-SMT.pdf
footprint 2.5 mm Power jack
pins: 1 VPP, 1 VPP, 3 GND, 4 GND

## PJ-044BH
designator J?
CONN PWR JACK 2.5X5.5MM SOLDER; Manufacturer: CUI Inc; Number: PJ-044BH
footprint PJ-0448BH (CONN PWR JACK 2.5X5.5MM)
pins: 1, 2, 3

## PKLCS1212E4001-R1
designator LS?, comment PIEZO 25VP-P
BUZZER PIEZO 25VP-P SMD; Manufacturer: Murata Electronics North America; Part Number: PKLCS1212E4001-R1; HelpURL: C:\altium files\Datasheets\2010 Design Guide.pdf
footprint PKLCS1212E4001-R1
pins: 1, 2

## PMEG3010EP,115
designator D?, comment 30V 1.0A
SCHOTTKY RECT 30V 1.0A SOD128; Part Number: PMEG3010EP,115; Manufacturer: NXP Semiconductors; HelpURL: C:\altium files\Datasheets\PMEG3010EP.pdf
footprint SOD128
pins: 1 A, 2 K

## PPC08060-001
designator L??  value 1MH 1.6A 22X14  (hidden comment: PPC08060-001)
INDUCTOR 1MH 1.6A 22X14; Manufacturer: Murata Power Solutions Inc; Part Number: 1410516C; HelpURL: G:\Altium\Library\DATASHEETS\kmp_1400.pdf; Siemens Part Number: PPC08060-001
footprint Choke inductor 22X14 (Murata Power Solutions Inc)
pins: 1, 2

## PPC08174-001
designator L?  value 1000UH .90A  (hidden comment: PPC08174-001)
1000UH .90A SMD; Manufacturer: Wurth Electronics Inc; Part Number: 7447709102; HelpURL: G:\Altium\Library\DATASHEETS\7447709102.pdf; Siemens Part Number: PPC08174-001
footprint Wurthx XXL (Power Choke)
pins: 1, 2

## R-736.5P
designator U?, comment DC DC CONVERTER 6.5V 19.5W
Manufacturer: Recom Power; Number: R-736.5P
footprint R-7312P (DC DC CONVERTER 12V 36W)
pins: 1 ON / OFF , 2 Vin1, 3 Vin2, 4 Vin3, 5 GND1, 6 GND2, 7 GND3, 8 GND4, 9 VOUT1, 10 VOUT2, 11 VOUT3, 12 VOUT_ADJ

## R-7312P
designator U?, comment DC DC CONVERTER 12V 36W
Manufacturer: Recom Power; Number: R-7312P
footprint R-7312P (DC DC CONVERTER 12V 36W)
pins: 1 ON / OFF , 2 Vin1, 3 Vin2, 4 Vin3, 5 GND1, 6 GND2, 7 GND3, 8 GND4, 9 VOUT1, 10 VOUT2, 11 VOUT3, 12 VOUT_ADJ

## RA-T2X-51E
designator H?, comment HEATSINK TO-220
HEATSINK FOR TO-220 218 247 2.0"; Manufacturer: Ohmite; Number: RA-T2X-51E
footprint HEATSINK TO-220-  2.0"x1.65"x.985" (HEATSINK FOR TO-220 218 247 2.0")
pins: 1, 2

## RC0603FR-0710KL
designator R?, comment 10K OHM 1% 1/10W
RES SMD 10K OHM 1% 1/10W 0603; Manufacturer: Yageo; Number: RC0603FR-0710KL
footprint SMD-0603-RES
pins: 1, 2

## RC0603JR-073K3L
designator R?, comment 3.3K OHM 5% 1/10W
RES SMD 3.3K OHM 5% 1/10W 0603; Manufacturer: Yageo; Number: RC0603JR-073K3L
footprint SMD-0603-RES
pins: 1, 2

## RC0603JR-0711KL
designator R?, comment 11K OHM 5% 1/10W
RES SMD 11K OHM 5% 1/10W 0603; Manufacturer: Yageo; Number: RC0603JR-0711KL
footprint SMD-0603-RES
pins: 1, 2

## RC0603JR-0718KL
designator R?, comment 18K OHM 5% 1/10W
RES SMD 18K OHM 5% 1/10W 0603; Manufacturer: Yageo; Number: RC0603JR-0718KL
footprint SMD-0603-RES
pins: 1, 2

## RC0603JR-0720KL
designator R?, comment 20K OHM 5% 1/10W
RES SMD 20K OHM 5% 1/10W 0603; Manufacturer: Yageo; Number: RC0603JR-0720KL
footprint SMD-0603-RES
pins: 1, 2

## RC0603JR-0733KL
designator R?, comment 33K OHM 5% 1/10W
RES SMD 33K OHM 5% 1/10W 0603; Manufacturer: Yageo; Number: RC0603JR-0733KL
footprint SMD-0603-RES
pins: 1, 2

## RC0805FR-071KL
designator R?, comment 1K OHM 1%
RES SMD 1K OHM 1% 1/8W 0805; Manufacturer: Yageo; Number: RC0805FR-071KL
footprint SMD-0805-RES
pins: 1, 2

## RC0805JR-070RL
designator R?, comment 0 OHM JUMPER 1/8W
RES SMD 0 OHM JUMPER 1/8W 0805; Manufacturer: Yageo; Number: RC0805JR-070RL
footprint SMD-0805-RES
pins: 1, 2

## RC0805JR-073K6L
designator R?, comment 3.6K OHM 5% 1/8W
RES SMD 3.6K OHM 5% 1/8W 0805; Part Number: RC0805JR-073K6L; Manufacturer: Yageo
footprint R0805
pins: 1, 2

## RC0805JR-07220RL
designator R?, comment 220 OHM 5% 1/8W
RES SMD 220 OHM 5% 1/8W 0805; Manufacturer: Yageo; Number: RC0805JR-07220RL
footprint SMD-0805-RES
pins: 1, 2

## RC0805JR-07470RL
designator R?, comment 470 OHM 5% 1/8W
RES SMD 470 OHM 5% 1/8W 0805; Manufacturer: Yageo; Number: RC0805JR-07470RL
footprint SMD-0805-RES
pins: 1, 2

## RDER71H105K2M1H03A
designator C?, comment 1UF 50V X7R
CAP CER 1UF 50V X7R RADIAL; Manufacturer: Murata Electronics North America; Number: RDER71H105K2M1H03A
footprint 6mm Murata
pins: 1, 2

## RES
designator R?, comment value 1k Ohms  (hidden comment: 1.0K OHM 1/8W 5%)
RES 1.0K OHM 1/8W 5% 0805 SMD; Part Number: ERJ-6GEYJ102V; Manufacturer: Panasonic - ECG
simulation model RESISTOR (Resistor)
signal-integrity model Res
footprint R0805
pins: 1, 2

## RES_1
designator R?, comment 5.11K OHM 1/8W 1%
RRES 5.11K OHM 1/8W 1% 0805 SMD; Part Number: ERJ-6ENF5111V; Manufacturer: Panasonic - ECG; Value: 5.11K OHM 1/8W 1%
simulation model RESISTOR (Resistor)
signal-integrity model Res
footprint R0805
pins: 1, 2

## RESISTOR
designator R?, comment value 10K OHM 1/8W 5%  (hidden comment: RES 10K OHM 1/8W 5%)
RES 10K OHM 1/8W 5% 0805 SMD; Part Number: ERJ-6GEYJ103V; Manufacturer: Panasonic - ECG; Siemens Part Number: PCR08048-001
simulation model RESISTOR (Resistor)
signal-integrity model Res
pins: 1, 2

## RMCF0603FT68K0
designator R?, comment 68K OHM 1% 1/10W
RES 68K OHM 1% 1/10W 0603; Manufacturer: Stackpole Electronics Inc.; Number: RMCF0603FT68K0
footprint SMD-0603-RES
pins: 1, 2

## RMCF0805FT10M0
designator R?, comment 10M OHM 1/8W 1%
RES 10M OHM 1/8W 1% 0805 SMD; Part Number: RMCF0805FT10M0; Manufacturer: Stackpole Electronics Inc; Value: 10M OHM 1/8W 1%
simulation model RESISTOR (Resistor)
signal-integrity model Res
footprint R0805
pins: 1, 2

## RMCF0805FT10M0_1
designator R?, comment 30.0K OHM 1/8W 1%
RES 30.0K OHM 1/8W 1% 0805 SMD; Part Number: RC0805FR-0730KL; Manufacturer: Yageo; Value: 30.0K OHM 1/8W 1%
simulation model RESISTOR (Resistor)
signal-integrity model Res
footprint R0805
pins: 1, 2

## RN55D4003FB14
designator R?, comment 400K OHM 1/8W 1%
RES 400K OHM 1/8W 1% AXIAL; Manufacturer: Vishay Dale; Number: RN55D4003FB14
footprint 2.29mm x 6.10mm resistor (1/8W resistor through hole)
pins: 1, 2

## RN731JTTD3202D25
designator R?, comment 32kOhm ,0.5%
Thin Film Resistors 32kOhm,0603,0.5%,25p pm,63mW,50V; Manufacturer: KOA Speer; Number: RN731JTTD3202D25
footprint SMD-0603-RES
pins: 1, 2

## RNF14FTD499K
designator R?, comment 499K OHM 1/4W 1%
RES 499K OHM 1/4W 1% AXIAL; Manufacturer: Stackpole Electronics Inc.; Number: RNF14FTD499K
footprint 2.35mm x 6.35mm resistor (1/4W resistor through hole)
pins: 1, 2

## RNMF14FTC680R
designator R?, comment 680 OHM 1/4W 1%
RES 680 OHM 1/4W 1% AXIAL; Manufacturer: Stackpole Electronics Inc.; Number: RNMF14FTC680R
footprint 1.78mm x 3.30mm resistor (1/4W resistor through hole)
pins: 1, 2

## RT0805BRD07100KL
designator R?, comment 100K OHM 0.1% 1/8W
RES SMD 100K OHM 0.1% 1/8W 0805; Part Number: RT0805BRD07100KL; Manufacturer: Yageo
footprint R0805
pins: 1, 2

## SCD7812BTG
designator U?, comment REG 1A 12V
IC VOLT REG 1A 12V TO220; Manufacturer: ON Semiconductor; Number: SCD7812BTG
footprint TO-220-3 (TO-220, SINGLE GAUGE)
pins: 1 Input, 2 GND, 3 Output

## SCRH127-180
designator L?, comment value 18UH 3.90A  (hidden comment: 18UH 3.90A 1KHZ)
INDUCTOR SMD 18UH 3.90A 1KHZ; Manufacturer: Signal Transformers; Part Number: SCRH127-180; HelpURL: C:\altium files\Datasheets\P131_SCRH127.pdf
footprint SCRH127
pins: 1, 2

## Seed Logo
designator Logo2, comment None  (value not drawn)
footprint Model Name (Footprint not found)
footprint Seed Logo

## SENSOR
designator U?, comment MULTI-GAIN
IC TEMP SENSOR MULTI-GAIN SC70-5; Part Number: LM94021BIMG/NOPB; Manufacturer: National Semiconductor; HelpURL: C:\altium files\Datasheets\lm94021.pdf
footprint SC-70
pins: 1 GS0, 2 GND, 3 VOUT, 4 VCC, 5 GS1

## SENSOR HALL EFFECT
designator U?, comment 0.85mV/G ~ 1.75mV/G
IC SENSOR HALL EFFECT SOT23W; Part Number: A1302KLHLT-T; Manufacturer: Allegro Microsystems Inc; HelpURL: C:\altium files\Datasheets\A1301-2-Datasheet.pdf
footprint SOT-23
pins: 1 VCC, 2 GND, 3 VOUT

## SH50S-2.0-150
designator L?, comment value 150UH 2.0A 50KHZ  (hidden comment: INDUCTOR 167UH 2.50A 150KHZ)
INDUCTOR 150UH 2.0A 50KHZ SMD; Manufacturer: AlfaMag Electronics, LLC; Part Number: SH50S-2.0-150; HelpURL: C:\altium files\Datasheets\SH150 Series.pdf
footprint SH6A inductor
pins: 1, 2

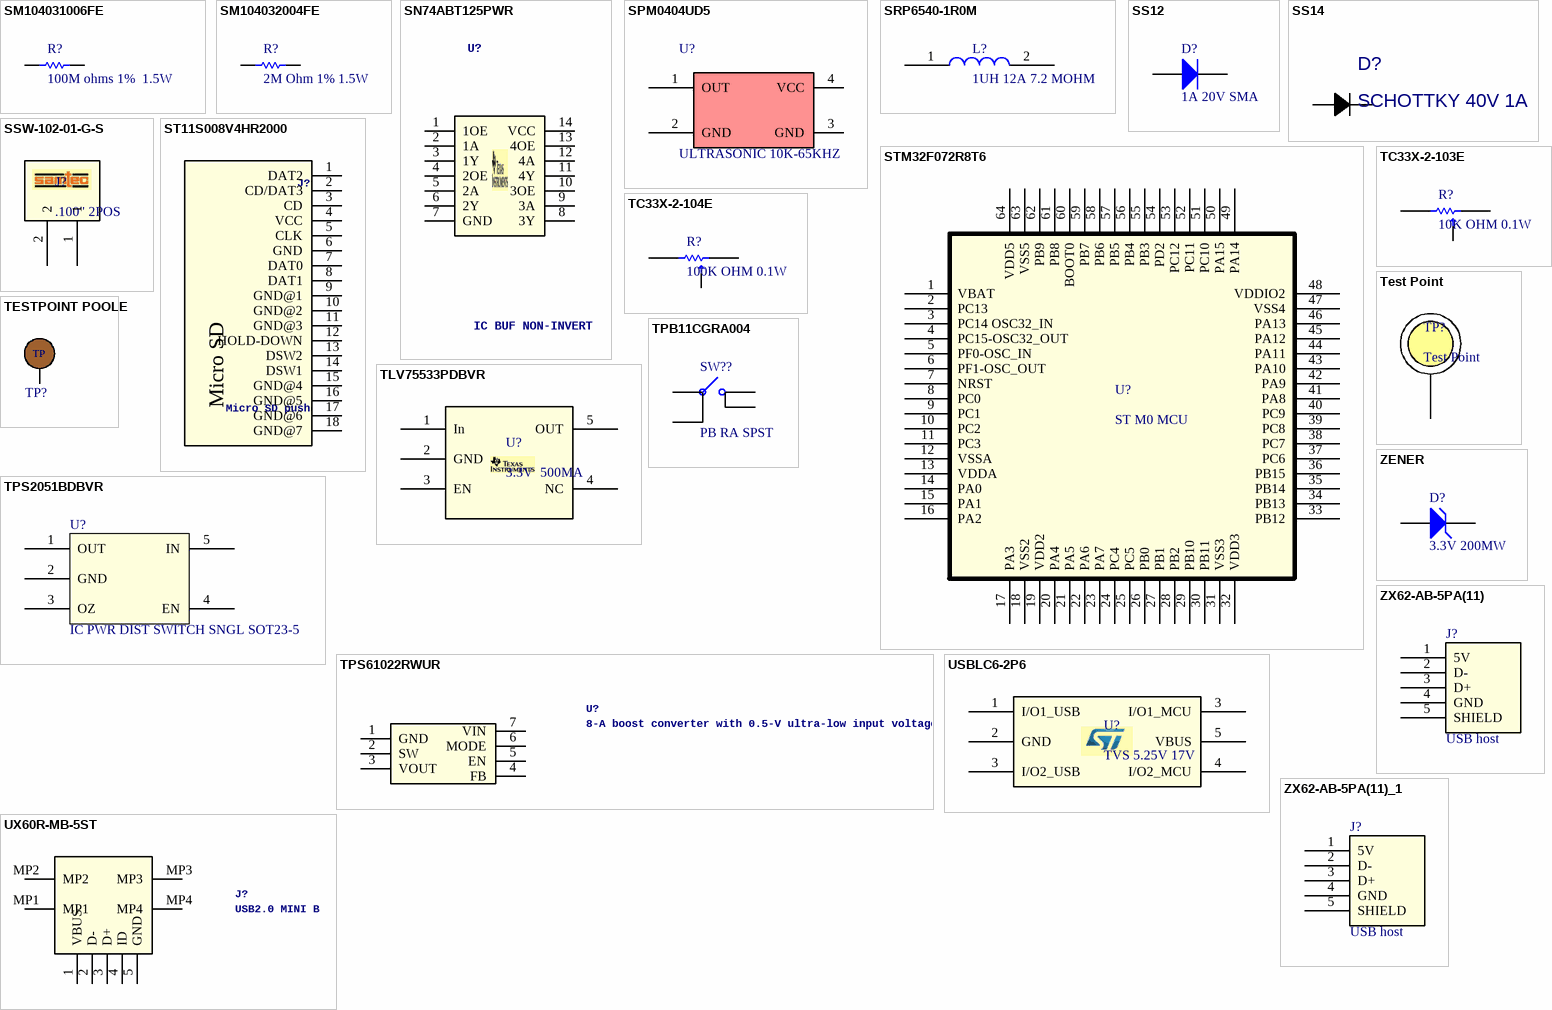
[diagram p9: symbols SM104031006FE to ZX62-AB-5PA(11)_1]

## SM104031006FE
designator R?, comment 100M ohms 1%  1.5W
Thick Film Resistors - Through Hole 100M ohms 1%; Manufacturer: Ohmite; Number: SM104031006FE
footprint Ohmite 22.6 mm (Slim-Mox)
pins: 1, 2

## SM104032004FE
designator R?, comment 2M Ohm 1% 1.5W
Res Thick Film 2M Ohm 1% 1.5W ±50ppm/°C Conformal Epoxy RDL; Manufacturer: Ohmite; Number: SM104032004FE
footprint Ohmite 22.6 mm (Slim-Mox)
pins: 1, 2

## SN74ABT125PWR
designator U?, comment IC BUF NON-INVERT
IC BUF NON-INVERT 5.5V 14TSSOP; Manufacturer: Texas Instruments; Number: SN74ABT125PWR; Digi-Key_Part_Number: 296-3877-1-ND; MP: SN74ABT125PWR
footprint 14TSSOP (Texas Instruments)
pins: 1 1OE, 2 1A, 3 1Y, 4 2OE, 5 2A, 6 2Y, 7 GND, 8 3Y, 9 3A, 10 3OE, 11 4Y, 12 4A, 13 4OE, 14 VCC (power)

## SPM0404UD5
designator U?, comment ULTRASONIC 10K-65KHZ
SENSOR ULTRASONIC 10K-65KHZ SMD; Part Number: SPM0404UD5; Manufacturer: Knowles Acoustics; HelpURL: C:\altium files\Datasheets\SPM0404UD5.pdf
footprint SPM0404
pins: 1 OUT, 2 GND, 3 GND, 4 VCC

## SRP6540-1R0M
designator L?, comment 1UH 12A 7.2 MOHM
FIXED IND 1UH 12A 7.2 MOHM SMD; Part Number: SRP6540-1R0M; Manufacturer: Bourns Inc.
footprint R56 Inductor Bourns
pins: 1, 2

## SS12
designator D?, comment 1A 20V SMA
DIODE SCHOTTKY 1A 20V SMA; Part Number: SS12; Manufacturer: Fairchild Semiconductor; HelpURL: C:\altium files\Datasheets\S100.pdf
footprint DO214AA
pins: 1 A, 2 K

## SS14
designator D?, comment SCHOTTKY 40V 1A
DIODE SCHOTTKY 40V 1A SMA; Manufacturer: Vishay; Number: SS14
footprint DIODE DO-214AC
pins: 1 Anode, 2 Cathode
1 alternate drawing of the same symbol

## SSW-102-01-G-S
designator J?, comment .100" 2POS
CONN RCPT .100" 2POS SNGL GOLD; Manufacturer: Samtec Inc.; Number: SSW-102-01-G-S
footprint 100 mill 2 Con heater (Aurduino Interface Connector)
pins: 1, 2

## ST11S008V4HR2000
designator J?, comment Micro SD push
CONN MICRO SD CARD PUSH-PUSH R/A; Manufacturer: JAE Electronics; Number: ST11S008V4HR2000
footprint JAE_ST11H_MicroSD (CONN MICRO SD CARD PUSH-PUSH R/A)
pins: 1 DAT2, 2 CD/DAT3, 3 CD, 4 VCC, 5 CLK, 6 GND, 7 DAT0, 8 DAT1, 9 GND@1, 10 GND@2, 11 GND@3, 12 HOLD-DOWN, 13 DSW2, 14 DSW1, 15 GND@4, 16 GND@5, 17 GND@6, 18 GND@7
text: Micro SD

## STM32F072R8T6
designator U?, comment ST M0 MCU
IC MCU 32BIT 64KB FLASH 64LQFP; Part Number: STM32F072R8T6; Manufacturer: STMicroelectronics
footprint QFP50P1200X1200X160-64N
pins: 1 VBAT, 2 PC13, 3 PC14 OSC32_IN, 4 PC15-OSC32_OUT, 5 PF0-OSC_IN, 6 PF1-OSC_OUT, 7 NRST, 8 PC0, 9 PC1, 10 PC2, 11 PC3, 12 VSSA, 13 VDDA, 14 PA0, 15 PA1, 16 PA2, 17 PA3, 18 VSS2, 19 VDD2, 20 PA4, 21 PA5, 22 PA6, 23 PA7, 24 PC4, 25 PC5, 26 PB0, 27 PB1, 28 PB2, 29 PB10, 30 PB11, 31 VSS3, 32 VDD3, 33 PB12, 34 PB13, 35 PB14, 36 PB15, 37 PC6, 38 PC7, 39 PC8, 40 PC9, 41 PA8, 42 PA9, 43 PA10, 44 PA11, 45 PA12, 46 PA13, 47 VSS4, 48 VDDIO2, 49 PA14, 50 PA15, 51 PC10, 52 PC11, 53 PC12, 54 PD2, 55 PB3, 56 PB4, 57 PB5, 58 PB6, 59 PB7, 60 BOOT0, 61 PB8, 62 PB9, 63 VSS5, 64 VDD5

## TC33X-2-103E
designator R?, comment 10K OHM 0.1W
TRIMMER 10K OHM 0.1W J LEAD TOP; Manufacturer: TT Electronics/BI; Number: TC33X-2-103E
footprint 3.80mm x 3.60mm x 1.20mm POT (J Lead)
pins: 1, 2, 3

## TC33X-2-104E
designator R?, comment 100K OHM 0.1W
TRIMMER 100K OHM 0.1W J LEAD TOP; Manufacturer: TT Electronics/BI; Number: TC33X-2-104E
footprint 3.80mm x 3.60mm x 1.20mm POT (J Lead)
pins: 1, 2, 3

## Test Point
designator TP?
Not a part PCB metal only; Number: NA; Manufacturer: NA
footprint 100 mill dia test point (Not a real part)
pins: 1

## TESTPOINT POOLE
designator TP?  (value not drawn)
Part Number: No POP
footprint TEST POINT
footprint TESTPOINT (POOLE)
pins: 1
text: TP

## TLV75533PDBVR
designator U?, comment 3.3V  500MA
IC REG LINEAR 3.3V 500MA SOT23-5; Manufacturer: Texas Instruments; Number: TLV75533PDBVR
footprint SOT-23-5 TI (SOT-753)
pins: 1 In, 2 GND, 3 EN, 4 NC, 5 OUT

## TPB11CGRA004
designator SW??, comment PB RA SPST
SWITCH PB RA SPST BLACK CAP.4VA; Manufacturer: TE Connectivity; Part Number: TPB11CGRA004; HelpURL: G:\Altium\Library\DATASHEETS\ENG_CD_1825097_A1.pdf
footprint TPB11CGRA
footprint TPB11CGRA
pins: 1 NO, 3 NO, 4 NO, 5 NO

## TPS2051BDBVR
designator U?, comment IC PWR DIST SWITCH SNGL SOT23-5
Part Number: TPS2051BDBVR; Manufacturer: Texas Instruments; HelpURL: C:\altium files\Datasheets\tps2051b.pdf
footprint SOT 23-5
pins: 1 OUT, 2 GND, 3 OZ, 4 EN, 5 IN

## TPS61022RWUR
designator U?, comment 8-A boost converter with 0.5-V ultra-low input voltage
Switching Voltage Regulators FINISH GOODS FOR TPS61022; Manufacturer: Texas Instruments; Part Number: TPS61022RWUR
footprint TPS61022RWUR
pins: 1 GND, 2 SW, 3 VOUT, 4 FB, 5 EN, 6 MODE, 7 VIN

## USBLC6-2P6
designator U?, comment TVS 5.25V 17V
TVS DIODE 5.25V 17V SOT666; Part Number: USBLC6-2P6; Manufacturer: STMicroelectronics
footprint SOT-666
pins: 1 I/O1_USB, 2 GND, 3 I/O2_USB, 3 I/O1_MCU, 4 I/O2_MCU, 5 VBUS

## UX60R-MB-5ST
designator J?, comment USB2.0 MINI B
CONN RCPT USB2.0 MINI B SMD R/A; Manufacturer: Hirose; Part Number: UX60R-MB-5ST
footprint UX60RMB5ST
pins: 1 VBUS, 2 D-, 3 D+, 4 ID, 5 GND, MP1, MP2, MP3, MP4

## ZENER
designator D?, comment 3.3V 200MW
DIODE ZENER 3.3V 200MW SOD-323F; Part Number: MM3Z3V3B; Manufacturer: Fairchild Semiconductor; HelpURL: C:\altium files\Datasheets\MM3Z10VB.pdf
simulation model ZENER (Diode)
signal-integrity model D Zener
footprint SOD323F
pins: 1 "Anode", 2 "Cathode"

## ZX62-AB-5PA(11)
designator J?, comment USB host
CONN RCPT MICRO USB AB SMD R/A; Manufacturer: Hirose Electric Co Ltd; Part Number: ZX62-AB-5PA(11); HelpURL: C:\altium files\Datasheets\e24200011.pdf
footprint micro AB
pins: 1 5V, 2 D-, 3 D+, 4 GND, 5 SHIELD

## ZX62-AB-5PA(11)_1
designator J?, comment USB host
CONN RCPT MICRO USB AB SMD R/A; Manufacturer: Hirose Electric Co Ltd; Part Number: ZX62-AB-5PA(11); HelpURL: C:\altium files\Datasheets\e24200011.pdf
footprint micro AB
pins: 1 5V, 2 D-, 3 D+, 4 GND, 5 SHIELD